# Altium footprint library PCB - POWER INDUCTORS - WURTH WE-PD 1260.PcbLib: 1 footprints
Each footprint in its own frame and in the unit in brackets; x right, y up, seen from the top. Pads: shape width x height; smd on the part's side, far side on the other; paste and mask are expansions set on the pad; w line width, h text height; cw(c..) or ccw(c..) is an arc to the next point about the centre after c.
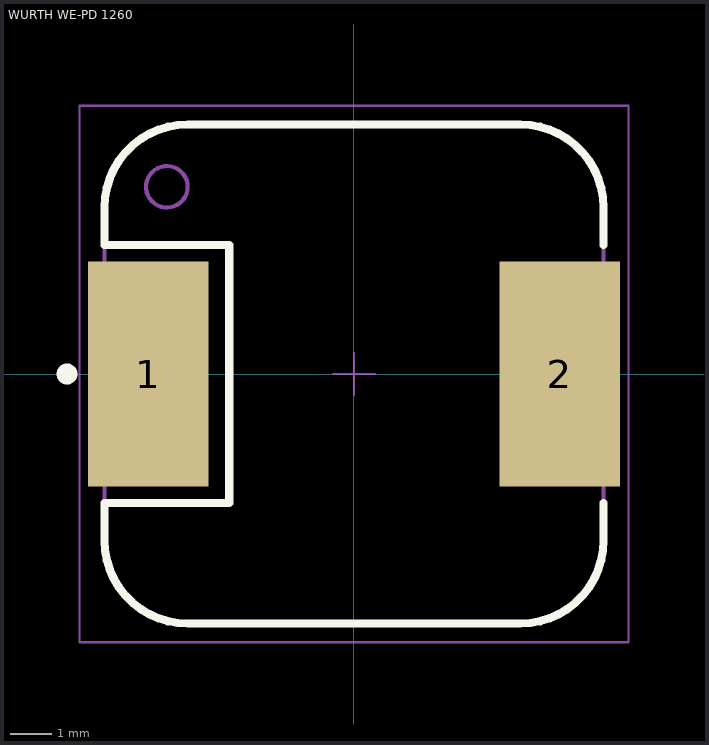
[diagram p0: the footprint, top view; thin cyan lines are the x and y axes]

## WURTH WE-PD 1260 [mm] "SMT Shielded Power Inductor, 2-leads, body 12x12mm"
height 6
pads (2):
  rect 2.9x5.4 smd: 1(-4.95,0) 2(4.95,0)
Top Overlay:
  circle w0.25: c-6.9,0 r0.125
  lines w0.2: 6,-3.1 6,-4 cw(c4,-4) 4,-6 -4,-6 cw(c-4,-4) -6,-4 -6,-3.1 -3,-3.1 -3,3.1 -6,3.1 -6,4 cw(c-4,4) -4,6 4,6 cw(c4,4) 6,4 6,3.1
Top Assembly:
  circle w0.1: c-4.5,4.5 r0.5
  lines w0.05: -0.5,0 0.5,0 ; 0,-0.5 0,0.5
  lines w0.1: -6,-4 ccw(c-4,-4) -4,-6 4,-6 ccw(c4,-4) 6,-4 6,4 ccw(c4,4) 4,6 -4,6 ccw(c-4,4) -6,4 -6,-4
Top Component Outline:
  circle w0.1: c-4.5,4.5 r0.5
  lines w0.1: -6,-4 ccw(c-4,-4) -4,-6 4,-6 ccw(c4,-4) 6,-4 6,4 ccw(c4,4) 4,6 -4,6 ccw(c-4,4) -6,4 -6,-4
Top Courtyard:
  lines w0.05: -6.6,-6.45 -6.6,6.45 6.6,6.45 6.6,-6.45 -6.6,-6.45
3D body "WE-PD_1260_m-base_744771xxx.stp": height 5.66, standoff 0, extent -6,-6 6,6